# EAGLE library part DMG4822SSD (library KVB-transistors)
MOSFET 2N-CH 30V 10A 8SO
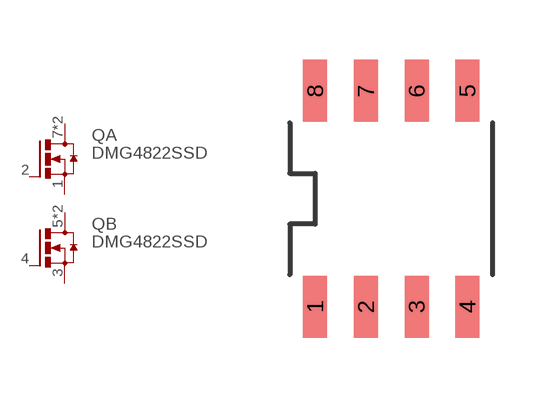
[diagram p1: symbol with the pads of DMG4822SSD; footprint DMG4822SSD]

Designator prefix Q; gates A=N-MOSFET B=N-MOSFET

## DMG4822SSD (MAN-PART_NUM: DMG4822SSD; MANUFACTURER: Diodes Inc.)  [DMG4822SSD]
1  A:S  pas
2  A:G  pas
3  B:S  pas
4  B:G  pas
5  B:D  pas
6  B:D  pas
7  A:D  pas
8  A:D  pas

## Footprint DMG4822SSD (pad centres in mm)
smd 0.6 x 1.55: 1 -1.905,-2.7; 2 -0.635,-2.7; 3 0.635,-2.7; 4 1.905,-2.7; 5 1.905,2.7; 6 0.635,2.7; 7 -0.635,2.7; 8 -1.905,2.7